# EAGLE library part DS28EC20 (library eeprom)
Maxim EEPROM DS28EC20
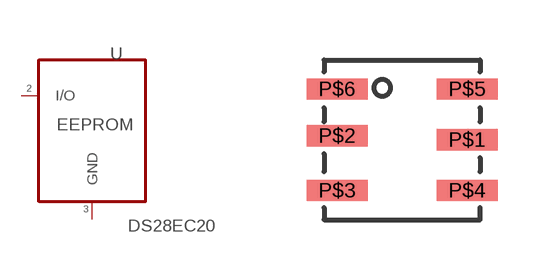
[diagram p0: symbol with the pads of TSOC_6; footprint TSOC_6]

Designator prefix U

## DS28EC20" (P1I: o)  [TSOC_6]
P$1  P$1  nc
P$2  I/O
P$3  GND  pwr
P$4  P$4  nc
P$5  P$5  nc
P$6  P$6  nc

## Footprint TSOC_6 (pad centres in mm)
EEPROM MAXIM TSOC_6 pkg (DS28EC20)
smd 1.53 x 0.53: P$1 1.625,0; P$2 -1.625,0.1; P$3 -1.625,-1.27; P$4 1.625,-1.27; P$5 1.625,1.27; P$6 -1.625,1.27